# Altium footprint library imx8mnano.PcbLib: 57 footprints (part 3 of 4)
Each footprint in its own frame and in the unit in brackets; x right, y up, seen from the top. Pads: shape width x height; smd on the part's side, far side on the other; paste and mask are expansions set on the pad; w line width, h text height; cw(c..) or ccw(c..) is an arc to the next point about the centre after c.
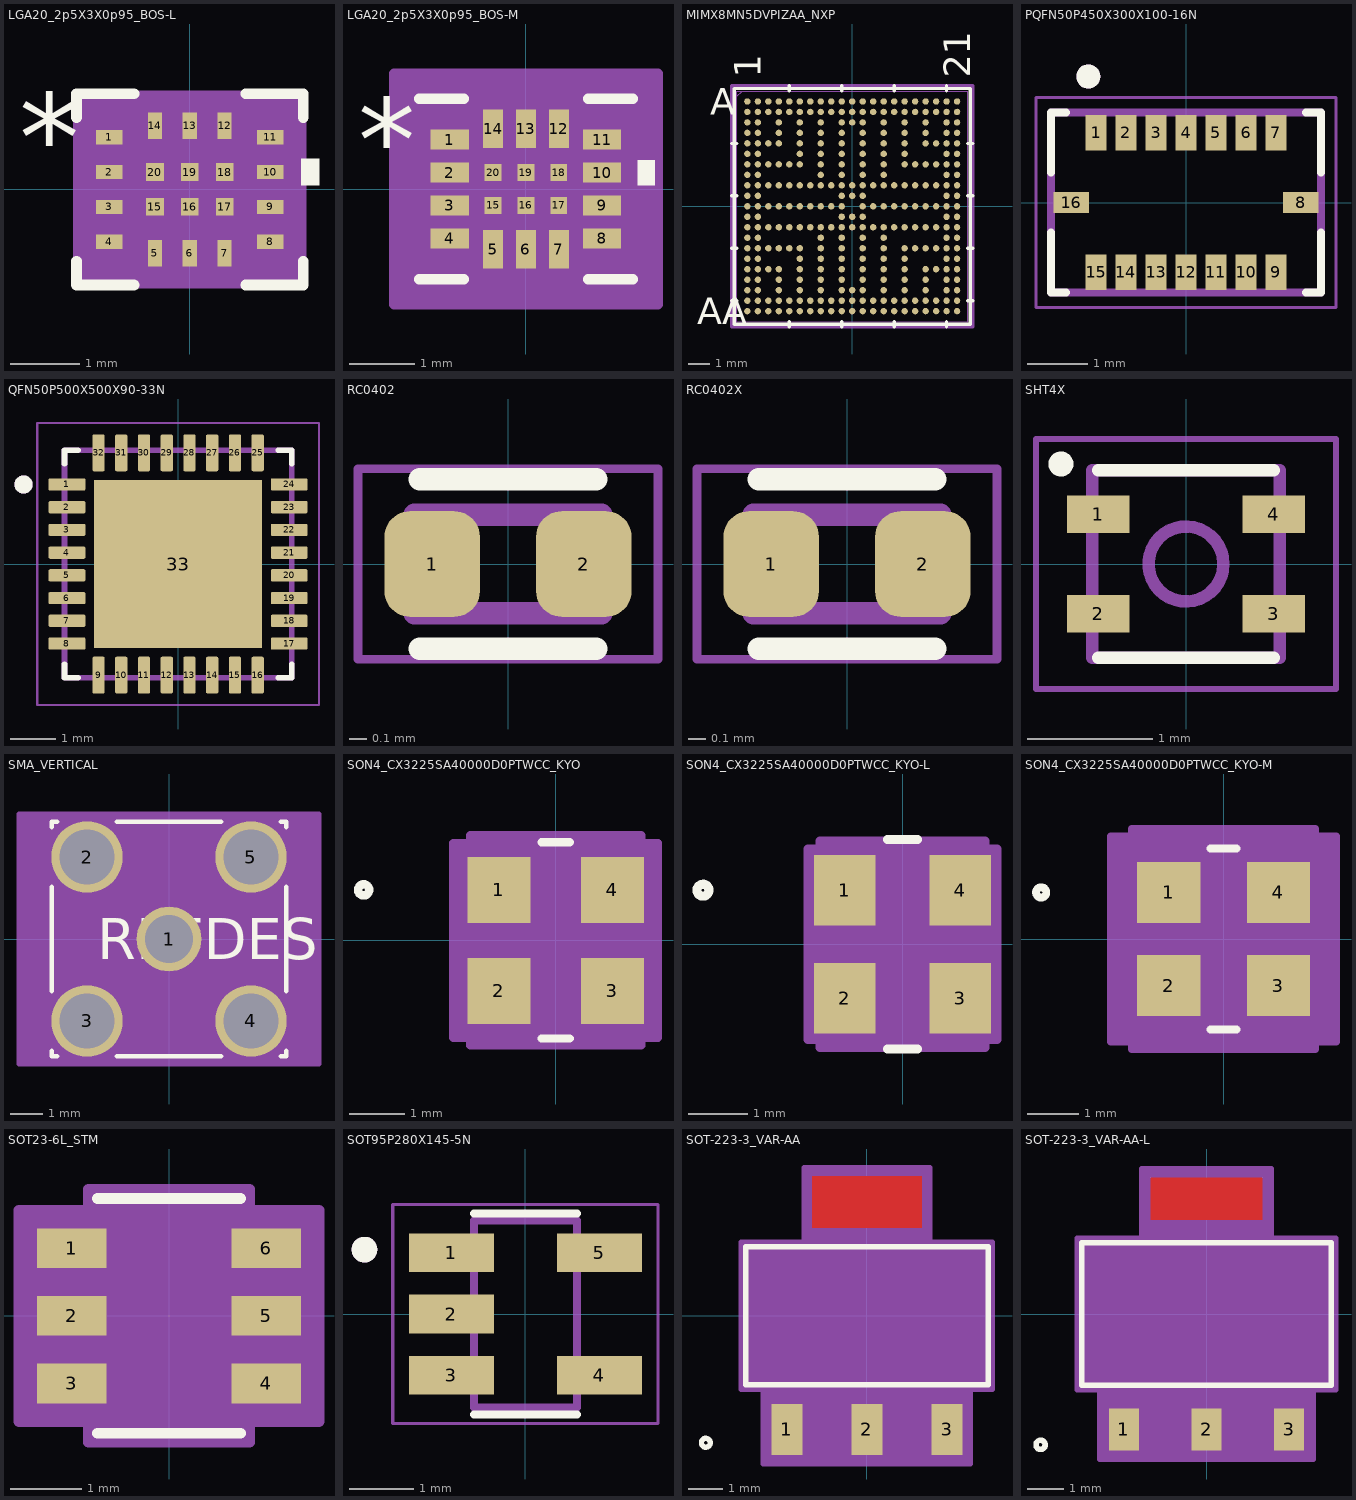
[diagram p2: the footprints below, top view; thin cyan lines are the x and y axes]

## LGA20_2p5X3X0p95_BOS-L [mil]
pads (20):
  rect 15x8 smd paste+0 mask+0: 1(-45.5,29.53) 2(-45.5,9.84) 3(-45.5,-9.84) 4(-45.5,-29.53) 8(45.5,-29.53) 9(45.5,-9.84) 10(45.5,9.84) 11(45.5,29.53)
  rect 8x15 smd paste+0 mask+0: 5(-19.68,-36) 6(0,-36) 7(19.68,-36) 12(19.68,36) 13(0,36) 14(-19.68,36)
  rect 10x10 smd paste+0 mask+0: 15(-19.68,-9.84) 16(0,-9.84) 17(19.69,-9.84) 18(19.68,9.84) 19(0,9.84) 20(-19.68,9.84)
Top Overlay:
  region: 63,17.34 73,17.34 73,2.34 63,2.34
  lines w6: -64,-40.64 -64,-54 -31.52,-54 ; -64,40.64 -64,54 -31.52,54 ; 31.52,-54 64,-54 64,-40.64 ; 31.52,54 64,54 64,40.64
  text "*" at -96.5,4.53 h50
Mechanical 13:
  lines w1: -59,-1 -9,49 ; -59,-49 -59,49 59,49 59,-49 -59,-49 ; -59,-34.53 -55,-34.53 -55,-24.53 -59,-24.53 -59,-34.53 ; -59,-14.84 -55,-14.84 -55,-4.84 -59,-4.84 -59,-14.84 ; -59,4.84 -55,4.84 -55,14.84 -59,14.84 -59,4.84 ; -59,24.53 -55,24.53 -55,34.53 -59,34.53 -59,24.53 ; -24.68,-49 -24.68,-45.5 -14.69,-45.5 -14.69,-49 -24.68,-49 ; -24.68,45.5 -24.68,49 -14.69,49 -14.69,45.5 -24.68,45.5 ; -5,-49 -5,-45.5 5,-45.5 5,-49 -5,-49 ; -5,45.5 -5,49 5,49 5,45.5 -5,45.5 ; 14.69,-49 14.69,-45.5 24.68,-45.5 24.68,-49 14.69,-49 ; 14.69,45.5 14.69,49 24.68,49 24.68,45.5 14.69,45.5 ; 55,-34.53 55,-24.53 59,-24.53 59,-34.53 55,-34.53 ; 55,-14.84 55,-4.84 59,-4.84 59,-14.84 55,-14.84 ; 55,4.84 55,14.84 59,14.84 59,4.84 55,4.84 ; 55,24.53 55,34.53 59,34.53 59,24.53 55,24.53
  text "*" at -19.5,4.53 h50
Mechanical 15:
  region: -27.68,-53 -63,-53 -63,-37.53 -63,37.53 -63,53 -27.68,53 27.68,53 63,53 63,37.53 63,-37.53 63,-53 27.68,-53
  lines w6: -63,-53 -27.68,-53 27.68,-53 63,-53 63,-37.53 63,37.53 63,53 27.68,53 -27.68,53 -63,53 -63,37.53 -63,-37.53 -63,-53
3D body "LGA20_2p5X3X0p95_BOS.step": height 39.09, standoff 0, extent -59.02,-49.02 59.02,49.02

## LGA20_2p5X3X0p95_BOS-M [mil]
pads (20):
  rect 23x12 smd paste+0 mask+0: 1(-45.5,29.53) 2(-45.5,9.84) 3(-45.5,-9.84) 4(-45.5,-29.53) 8(45.5,-29.53) 9(45.5,-9.84) 10(45.5,9.84) 11(45.5,29.53)
  rect 12x23 smd paste+0 mask+0: 5(-19.68,-36) 6(0,-36) 7(19.68,-36) 12(19.68,36) 13(0,36) 14(-19.68,36)
  rect 10x10 smd paste+0 mask+0: 15(-19.68,-9.84) 16(0,-9.84) 17(19.69,-9.84) 18(19.68,9.84) 19(0,9.84) 20(-19.68,9.84)
Top Overlay:
  region: 67,17.34 77,17.34 77,2.34 67,2.34
  lines w6: -64,-54 -37.06,-54 ; -64,54 -37.06,54 ; 37.06,-54 64,-54 ; 37.06,54 64,54
  text "*" at -100.5,4.53 h50
Mechanical 13:
  lines w1: -59,-1 -9,49 ; -59,-49 59,-49 59,49 -59,49 -59,-49 ; -59,-34.53 -59,-24.53 -55,-24.53 -55,-34.53 -59,-34.53 ; -59,-14.84 -59,-4.84 -55,-4.84 -55,-14.84 -59,-14.84 ; -59,4.84 -59,14.84 -55,14.84 -55,4.84 -59,4.84 ; -59,24.53 -59,34.53 -55,34.53 -55,24.53 -59,24.53 ; -24.68,-49 -14.69,-49 -14.69,-45.5 -24.68,-45.5 -24.68,-49 ; -24.68,45.5 -14.69,45.5 -14.69,49 -24.68,49 -24.68,45.5 ; -5,-49 5,-49 5,-45.5 -5,-45.5 -5,-49 ; -5,45.5 5,45.5 5,49 -5,49 -5,45.5 ; 14.69,-49 24.68,-49 24.68,-45.5 14.69,-45.5 14.69,-49 ; 14.69,45.5 24.68,45.5 24.68,49 14.69,49 14.69,45.5 ; 55,-34.53 59,-34.53 59,-24.53 55,-24.53 55,-34.53 ; 55,-14.84 59,-14.84 59,-4.84 55,-4.84 55,-14.84 ; 55,4.84 59,4.84 59,14.84 55,14.84 55,4.84 ; 55,24.53 59,24.53 59,34.53 55,34.53 55,24.53
  text "*" at -15.5,4.53 h50
Mechanical 15:
  region: -45.69,-69 -79,-69 -79,-55.53 -79,55.53 -79,69 -45.69,69 45.69,69 79,69 79,55.53 79,-55.53 79,-69 45.69,-69
  lines w6: -79,-69 -79,-55.53 -79,55.53 -79,69 -45.69,69 45.69,69 79,69 79,55.53 79,-55.53 79,-69 45.69,-69 -45.69,-69 -79,-69
3D body "LGA20_2p5X3X0p95_BOS.step": height 39.09, standoff 0, extent -59.02,-49.02 59.02,49.02

## MIMX8MN5DVPIZAA_NXP [mil]
pads (306):
  round 12 smd paste+0 mask+0: A1(-196.9,196.9) A2(-177.21,196.9) A3(-157.52,196.9) A4(-137.83,196.9) A5(-118.14,196.9) A6(-98.45,196.9) A7(-78.76,196.9) A8(-59.07,196.9) A9(-39.38,196.9) A10(-19.69,196.9) A11(0,196.9) A12(19.69,196.9) A13(39.38,196.9) A14(59.07,196.9) A15(78.76,196.9) A16(98.45,196.9) A17(118.14,196.9) A18(137.83,196.9) A19(157.52,196.9) A20(177.21,196.9) A21(196.9,196.9) AA1(-196.9,-196.9) AA2(-177.21,-196.9) AA3(-157.52,-196.9) AA4(-137.83,-196.9) AA5(-118.14,-196.9) AA6(-98.45,-196.9) AA7(-78.76,-196.9) AA8(-59.07,-196.9) AA9(-39.38,-196.9) AA10(-19.69,-196.9) AA11(0,-196.9) AA12(19.69,-196.9) AA13(39.38,-196.9) AA14(59.07,-196.9) AA15(78.76,-196.9) AA16(98.45,-196.9) AA17(118.14,-196.9) AA18(137.83,-196.9) AA19(157.52,-196.9) AA20(177.21,-196.9) AA21(196.9,-196.9) B1(-196.9,177.21) B2(-177.21,177.21) B3(-157.52,177.21) B4(-137.83,177.21) B5(-118.14,177.21) B6(-98.45,177.21) B7(-78.76,177.21) B8(-59.07,177.21) B9(-39.38,177.21) B10(-19.69,177.21) B11(0,177.21) B12(19.69,177.21) B13(39.38,177.21) B14(59.07,177.21) B15(78.76,177.21) B16(98.45,177.21) B17(118.14,177.21) B18(137.83,177.21) B19(157.52,177.21) B20(177.21,177.21) B21(196.9,177.21) C1(-196.9,157.52) C2(-177.21,157.52) C4(-137.83,157.52) C6(-98.45,157.52) C8(-59.07,157.52) C10(-19.69,157.52) C11(0,157.52) C12(19.69,157.52) C14(59.07,157.52) C16(98.45,157.52) C18(137.83,157.52) C20(177.21,157.52) C21(196.9,157.52) D1(-196.9,137.83) D2(-177.21,137.83) D4(-137.83,137.83) D6(-98.45,137.83) D8(-59.07,137.83) D10(-19.69,137.83) D12(19.69,137.83) D14(59.07,137.83) D16(98.45,137.83) D18(137.83,137.83) D20(177.21,137.83) D21(196.9,137.83) E1(-196.9,118.14) E2(-177.21,118.14) E3(-157.52,118.14) E4(-137.83,118.14) E6(-98.45,118.14) E8(-59.07,118.14) E10(-19.69,118.14) E12(19.69,118.14) E14(59.07,118.14) E16(98.45,118.14) E18(137.83,118.14) E19(157.52,118.14) E20(177.21,118.14) E21(196.9,118.14) F1(-196.9,98.45) F2(-177.21,98.45) F6(-98.45,98.45) F8(-59.07,98.45) F10(-19.69,98.45) F12(19.69,98.45) F14(59.07,98.45) F16(98.45,98.45) F20(177.21,98.45) F21(196.9,98.45) G1(-196.9,78.76) G2(-177.21,78.76) G3(-157.52,78.76) G4(-137.83,78.76) G5(-118.14,78.76) G6(-98.45,78.76) G8(-59.07,78.76) G10(-19.69,78.76) G12(19.69,78.76) G14(59.07,78.76) G16(98.45,78.76) G17(118.14,78.76) G18(137.83,78.76) G19(157.52,78.76) G20(177.21,78.76) G21(196.9,78.76) H1(-196.9,59.07) H2(-177.21,59.07) H8(-59.07,59.07) H10(-19.69,59.07) H12(19.69,59.07) H14(59.07,59.07) H20(177.21,59.07) H21(196.9,59.07) J1(-196.9,39.38) J2(-177.21,39.38) J3(-157.52,39.38) J4(-137.83,39.38) J5(-118.14,39.38) J6(-98.45,39.38) J7(-78.76,39.38) J8(-59.07,39.38) J9(-39.38,39.38) J10(-19.69,39.38) J11(0,39.38) J12(19.69,39.38) J13(39.38,39.38) J14(59.07,39.38) J15(78.76,39.38) J16(98.45,39.38) J17(118.14,39.38) J18(137.83,39.38) J19(157.52,39.38) J20(177.21,39.38) J21(196.9,39.38) K1(-196.9,19.69) K2(-177.21,19.69) K10(-19.69,19.69) K11(0,19.69) K12(19.69,19.69) K20(177.21,19.69) K21(196.9,19.69) L1(-196.9,0) L2(-177.21,0) L3(-157.52,0) L4(-137.83,0) L5(-118.14,0) L6(-98.45,0) L7(-78.76,0) L8(-59.07,0) L9(-39.38,0) L10(-19.69,0) L12(19.69,0) L13(39.38,0) L14(59.07,0) L15(78.76,0) L16(98.45,0) L17(118.14,0) L18(137.83,0) L19(157.52,0) L20(177.21,0) L21(196.9,0) M1(-196.9,-19.69) M2(-177.21,-19.69) M10(-19.69,-19.69) M11(0,-19.69) M12(19.69,-19.69) M20(177.21,-19.69) M21(196.9,-19.69) N1(-196.9,-39.38) N2(-177.21,-39.38) N3(-157.52,-39.38) N4(-137.83,-39.38) N5(-118.14,-39.38) N6(-98.45,-39.38) N7(-78.76,-39.38) N8(-59.07,-39.38) N9(-39.38,-39.38) N10(-19.69,-39.38) N11(0,-39.38) N12(19.69,-39.38) N13(39.38,-39.38) N14(59.07,-39.38) N15(78.76,-39.38) N16(98.45,-39.38) N17(118.14,-39.38) N18(137.83,-39.38) N19(157.52,-39.38) N20(177.21,-39.38) N21(196.9,-39.38) P1(-196.9,-59.07) P2(-177.21,-59.07) P8(-59.07,-59.07) P10(-19.69,-59.07) P12(19.69,-59.07) P14(59.07,-59.07) P20(177.21,-59.07) P21(196.9,-59.07) R1(-196.9,-78.76) R2(-177.21,-78.76) R3(-157.52,-78.76) R4(-137.83,-78.76) R5(-118.14,-78.76) R6(-98.45,-78.76) R8(-59.07,-78.76) R10(-19.69,-78.76) R12(19.69,-78.76) R14(59.07,-78.76) R16(98.45,-78.76) R17(118.14,-78.76) R18(137.83,-78.76) R19(157.52,-78.76) R20(177.21,-78.76) R21(196.9,-78.76) T1(-196.9,-98.45) T2(-177.21,-98.45) T6(-98.45,-98.45) T8(-59.07,-98.45) T10(-19.69,-98.45) T12(19.69,-98.45) T14(59.07,-98.45) T16(98.45,-98.45) T20(177.21,-98.45) T21(196.9,-98.45) U1(-196.9,-118.14) U2(-177.21,-118.14) U3(-157.52,-118.14) U4(-137.83,-118.14) U6(-98.45,-118.14) U8(-59.07,-118.14) U10(-19.69,-118.14) U12(19.69,-118.14) U14(59.07,-118.14) U16(98.45,-118.14) U18(137.83,-118.14) U19(157.52,-118.14) U20(177.21,-118.14) U21(196.9,-118.14) V1(-196.9,-137.83) V2(-177.21,-137.83) V4(-137.83,-137.83) V6(-98.45,-137.83) V8(-59.07,-137.83) V10(-19.69,-137.83) V12(19.69,-137.83) V14(59.07,-137.83) V16(98.45,-137.83) V18(137.83,-137.83) V20(177.21,-137.83) V21(196.9,-137.83) W1(-196.9,-157.52) W2(-177.21,-157.52) W4(-137.83,-157.52) W6(-98.45,-157.52) W8(-59.07,-157.52) W10(-19.69,-157.52) W11(0,-157.52) W12(19.69,-157.52) W14(59.07,-157.52) W16(98.45,-157.52) W18(137.83,-157.52) W20(177.21,-157.52) W21(196.9,-157.52) Y1(-196.9,-177.21) Y2(-177.21,-177.21) Y3(-157.52,-177.21) Y4(-137.83,-177.21) Y5(-118.14,-177.21) Y6(-98.45,-177.21) Y7(-78.76,-177.21) Y8(-59.07,-177.21) Y9(-39.38,-177.21) Y10(-19.69,-177.21) Y11(0,-177.21) Y12(19.69,-177.21) Y13(39.38,-177.21) Y14(59.07,-177.21) Y15(78.76,-177.21) Y16(98.45,-177.21) Y17(118.14,-177.21) Y18(137.83,-177.21) Y19(157.52,-177.21) Y20(177.21,-177.21) Y21(196.9,-177.21)
Top Overlay:
  lines w6: -226.5,-177.21 -216.5,-177.21 ; -226.5,-78.76 -216.5,-78.76 ; -226.5,19.69 -216.5,19.69 ; -226.5,118.14 -216.5,118.14 ; -118.14,-226.5 -118.14,-216.5 ; -118.14,216.5 -118.14,226.5 ; -19.69,-226.5 -19.69,-216.5 ; -19.69,216.5 -19.69,226.5 ; 78.76,-226.5 78.76,-216.5 ; 78.76,216.5 78.76,226.5 ; 177.21,-226.5 177.21,-216.5 ; 177.21,216.5 177.21,226.5 ; 216.5,-177.21 226.5,-177.21 ; 216.5,-78.76 226.5,-78.76 ; 216.5,19.69 226.5,19.69 ; 216.5,118.14 226.5,118.14 ; -221.5,-221.5 -221.5,221.5 221.5,221.5 221.5,-221.5 -221.5,-221.5
  text "21" at 221.9,241.5 h50
  text "1" at -171.9,241.5 h50
  text "AA" at -291.5,-221.9 h50
  text "A" at -266.5,171.9 h50
Bottom Overlay:
  text "21" at 171.9,241.5 h50
  text "1" at -221.9,241.5 h50
  text "AA" at -241.5,-221.9 h50
  text "A" at -241.5,171.9 h50
Mechanical 13:
  lines w1: -216.5,206.66 -206.66,216.5 ; -216.5,-216.5 -216.5,216.5 216.5,216.5 216.5,-216.5 -216.5,-216.5
  text "21" at 221.9,241.5 h50
  text "1" at -171.9,241.5 h50
  text "AA" at -291.5,-221.9 h50
  text "A" at -266.5,171.9 h50
Mechanical 15:
  lines w6: -226.5,-226.5 226.5,-226.5 226.5,226.5 -226.5,226.5 -226.5,-226.5

## PQFN50P450X300X100-16N [mm]
pads (16):
  rect 0.35x0.59 smd: 1(-1.5,1.165) 2(-1,1.165) 3(-0.5,1.165) 4(0,1.165) 5(0.5,1.165) 6(1,1.165) 7(1.5,1.165) 9(1.5,-1.165) 10(1,-1.165) 11(0.5,-1.165) 12(0,-1.165) 13(-0.5,-1.165) 14(-1,-1.165) 15(-1.5,-1.165)
  rect 0.59x0.35 smd: 8(1.915,0) 16(-1.915,0)
Top Overlay:
  circle w0.2: c-1.629,2.1 r0.1
  lines w0.127: -2.25,-0.5 -2.25,-1.5 -2,-1.5 ; -2.25,0.5 -2.25,1.5 -2,1.5 ; 2,-1.5 2.25,-1.5 2.25,-0.5 ; 2,1.5 2.25,1.5 2.25,0.5
Mechanical 13:
  circle w0.2: c-1.629,2.1 r0.1
  lines w0.127: -2.25,-1.5 -2.25,1.5 2.25,1.5 2.25,-1.5 -2.25,-1.5
Mechanical 15:
  lines w0.05: -2.5,-1.75 -2.5,1.75 2.5,1.75 2.5,-1.75 -2.5,-1.75
3D body "BMI088--3DModel-STEP-56544.STEP": height 1, standoff 0, extent -2.25,-1.5 2.25,1.5

## QFN50P500X500X90-33N [mm]
height 0.9
pads (33):
  rrect25% 0.81x0.27 smd mask+0: 1(-2.445,1.75) 2(-2.445,1.25) 3(-2.445,0.75) 4(-2.445,0.25) 5(-2.445,-0.25) 6(-2.445,-0.75) 7(-2.445,-1.25) 8(-2.445,-1.75) 17(2.445,-1.75) 18(2.445,-1.25) 19(2.445,-0.75) 20(2.445,-0.25) 21(2.445,0.25) 22(2.445,0.75) 23(2.445,1.25) 24(2.445,1.75)
  rrect25% 0.27x0.81 smd mask+0: 9(-1.75,-2.445) 10(-1.25,-2.445) 11(-0.75,-2.445) 12(-0.25,-2.445) 13(0.25,-2.445) 14(0.75,-2.445) 15(1.25,-2.445) 16(1.75,-2.445) 25(1.75,2.445) 26(1.25,2.445) 27(0.75,2.445) 28(0.25,2.445) 29(-0.25,2.445) 30(-0.75,2.445) 31(-1.25,2.445) 32(-1.75,2.445)
  rect 3.7x3.7 smd paste-0.68 mask+0.05: 33(0,0)
Top Overlay:
  circle w0.2: c-3.4,1.75 r0.1
  lines w0.127: -2.5,-2.205 -2.5,-2.5 -2.205,-2.5 ; -2.5,2.205 -2.5,2.5 -2.205,2.5 ; 2.205,-2.5 2.5,-2.5 2.5,-2.205 ; 2.205,2.5 2.5,2.5 2.5,2.205
Top Solder:
  drawing of 32 lines, arcs and shapes, not listed
Mechanical 13:
  circle w0.2: c-3.4,1.75 r0.1
  lines w0.127: -2.5,-2.5 2.5,-2.5 2.5,2.5 -2.5,2.5 -2.5,-2.5
Mechanical 15:
  lines w0.05: -3.1,-3.1 3.1,-3.1 3.1,3.1 -3.1,3.1 -3.1,-3.1
3D body "step_temp.STEP": height 0.9, standoff 0, extent -2.5,-2.5 2.5,2.5

## RC0402 [mm]
pads (2):
  rrect53% 0.54x0.6 smd: 1(-0.43,0) 2(0.43,0)
Top Overlay:
  lines w0.127: -0.5,-0.48 0.5,-0.48 ; -0.5,0.48 0.5,0.48
Mechanical 13:
  lines w0.127: -0.53,-0.28 0.53,-0.28 0.53,0.28 -0.53,0.28 -0.53,-0.28
Mechanical 15:
  lines w0.05: -0.85,-0.54 0.85,-0.54 0.85,0.54 -0.85,0.54 -0.85,-0.54
3D body "YAG_CC0402_YAG.step": height 0.56, standoff 0, extent -0.521,-0.279 0.521,0.279

## RC0402X [mm]
pads (2):
  rrect53% 0.54x0.6 smd: 1(-0.43,0) 2(0.43,0)
Top Overlay:
  lines w0.127: -0.5,-0.48 0.5,-0.48 ; -0.5,0.48 0.5,0.48
Mechanical 13:
  lines w0.127: -0.53,-0.28 0.53,-0.28 0.53,0.28 -0.53,0.28 -0.53,-0.28
Mechanical 15:
  lines w0.05: -0.85,-0.54 0.85,-0.54 0.85,0.54 -0.85,0.54 -0.85,-0.54
3D body "RC0402FR-072KP.step": height 0.4, standoff 0, extent -0.5,-0.25 0.5,0.25

## SHT4X [mm]
pads (4):
  rect 0.5x0.3 smd: 1(-0.7,0.4) 2(-0.7,-0.4) 3(0.7,-0.4) 4(0.7,0.4)
Top Overlay:
  circle w0.1: c-1,0.8 r0.05
  lines w0.1: -0.7,-0.75 0.7,-0.75 ; -0.7,0.75 0.7,0.75
Mechanical 13:
  circle w0.1: c0,0 r0.3
  lines w0.1: -0.75,-0.75 0.75,-0.75 0.75,0.75 -0.75,0.75 -0.75,-0.75
Mechanical 15:
  lines w0.05: -1.2,-1 1.2,-1 1.2,1 -1.2,1 -1.2,-1
3D body "step_temp.STEP": height 0.69, standoff 0, extent -0.751,-0.751 0.751,0.751

## SMA_VERTICAL [mil]
pads (5):
  round 79 / inner round 60 / far side round 79 hole 59 paste-39.5 mask+0: 1(0,0)
  round 87 / inner round 60 / far side round 87 hole 67 paste-43.5 mask+0: 2(-100,100) 3(-100,-100) 4(100,-100) 5(100,100)
Top Overlay:
  lines w6: -143,-136.8 -143,-143 -136.8,-143 ; -143,-63.2 -143,63.2 ; -143,136.8 -143,143 -136.8,143 ; -63.2,-143 63.2,-143 ; -63.2,143 63.2,143 ; 136.8,-143 143,-143 143,-136.8 ; 136.8,143 143,143 143,136.8 ; 143,-63.2 143,63.2
  text "REFDES" at -87.5,-25 h50
Mechanical 13:
  lines w1: -138,-138 138,-138 138,138 -138,138 -138,-138
  text "RefDes2" at -87.5,-25 h50
Mechanical 15:
  region: 183,-152.62 -183,-152.62 -183,152.62 183,152.62
  lines w6: -183,-152.62 -183,152.62 183,152.62 183,-152.62 -183,-152.62
3D body "SMA_STEP.stp": height 500, standoff -30.32, extent -137.8,-137.8 137.8,137.8

## SON4_CX3225SA40000D0PTWCC_KYO [mil]
pads (4):
  rect 45x47 smd paste+0 mask+0: 1(-40.5,36.02) 2(-40.5,-36.02) 3(40.5,-36.02) 4(40.5,36.02)
Top Overlay:
  circle w6: c-137.05,36.02 r4
  lines w6: -10.14,-70 10.14,-70 ; -10.14,70 10.14,70
Mechanical 13:
  circle w0: c-18,36.02 r3
  lines w0: -12,65 ccw(c0,65) 12,65
  lines w1: -51,-65 51,-65 51,65 -51,65 -51,-65
Mechanical 15:
  region: -61,-69.52 -73,-69.52 -73,69.52 -61,69.52 -61,75 61,75 61,69.52 73,69.52 73,-69.52 61,-69.52 61,-75 -61,-75
  lines w6: -73,-69.52 -73,69.52 -61,69.52 -61,75 61,75 61,69.52 73,69.52 73,-69.52 61,-69.52 61,-75 -61,-75 -61,-69.52 -73,-69.52
3D body "SON4_CX3225SA40000D0PTWCC_KYO.step": height 32.09, standoff 0, extent -50.98,-65 50.98,65

## SON4_CX3225SA40000D0PTWCC_KYO-L [mil]
pads (4):
  rect 41x47 smd paste+0 mask+0: 1(-38.5,36.02) 2(-38.5,-36.02) 3(38.5,-36.02) 4(38.5,36.02)
Top Overlay:
  circle w6: c-133.05,36.02 r4
  lines w6: -10.14,-70 10.14,-70 ; -10.14,70 10.14,70
Mechanical 13:
  circle w0: c-18,36.02 r3
  lines w0: -12,65 ccw(c0,65) 12,65
  lines w1: -51,-65 51,-65 51,65 -51,65 -51,-65
Mechanical 15:
  region: -55,-63.52 -63,-63.52 -63,63.52 -55,63.52 -55,69 55,69 55,63.52 63,63.52 63,-63.52 55,-63.52 55,-69 -55,-69
  lines w6: -63,-63.52 -63,63.52 -55,63.52 -55,69 55,69 55,63.52 63,63.52 63,-63.52 55,-63.52 55,-69 -55,-69 -55,-63.52 -63,-63.52
3D body "SON4_CX3225SA40000D0PTWCC_KYO.step": height 32.09, standoff 0, extent -50.98,-65 50.98,65

## SON4_CX3225SA40000D0PTWCC_KYO-M [mil]
pads (4):
  rect 49x47 smd paste+0 mask+0: 1(-42.5,36.02) 2(-42.5,-36.02) 3(42.5,-36.02) 4(42.5,36.02)
Top Overlay:
  circle w6: c-141.05,36.02 r4
  lines w6: -10.14,-70 10.14,-70 ; -10.14,70 10.14,70
Mechanical 13:
  circle w0: c-18,36.02 r3
  lines w0: -12,65 ccw(c0,65) 12,65
  lines w1: -51,-65 51,-65 51,65 -51,65 -51,-65
Mechanical 15:
  region: -71,-79.52 -87,-79.52 -87,79.52 -71,79.52 -71,85 71,85 71,79.52 87,79.52 87,-79.52 71,-79.52 71,-85 -71,-85
  lines w6: -87,-79.52 -87,79.52 -71,79.52 -71,85 71,85 71,79.52 87,79.52 87,-79.52 71,-79.52 71,-85 -71,-85 -71,-79.52 -87,-79.52
3D body "SON4_CX3225SA40000D0PTWCC_KYO.step": height 32.09, standoff 0, extent -50.98,-65 50.98,65

## SOT23-6L_STM [mil]
pads (6):
  rect 38.5x22 smd paste+0 mask+0: 1(-53.75,37.4) 2(-53.75,0) 3(-53.75,-37.4) 4(53.75,-37.4) 5(53.75,0) 6(53.75,37.4)
Top Overlay:
  lines w6: -39.5,-65 39.5,-65 ; -39.5,65 39.5,65
  text "." at -65,65 h50
Mechanical 13:
  lines w0: -12,60 ccw(c0,60) 12,60
  lines w1: -59,-47.4 -34.5,-47.4 -34.5,-27.4 -59,-27.4 -59,-47.4 ; -59,-10 -34.5,-10 -34.5,10 -59,10 -59,-10 ; -59,27.4 -34.5,27.4 -34.5,47.4 -59,47.4 -59,27.4 ; -34.5,-60 -34.5,60 34.5,60 34.5,-60 -34.5,-60 ; 34.5,-47.4 59,-47.4 59,-27.4 34.5,-27.4 34.5,-47.4 ; 34.5,-10 59,-10 59,10 34.5,10 34.5,-10 ; 34.5,27.4 59,27.4 59,47.4 34.5,47.4 34.5,27.4
  text "*" at -32,7 h50
Mechanical 15:
  region: -44.5,-58.4 -83,-58.4 -83,58.4 -44.5,58.4 -44.5,70 44.5,70 44.5,58.4 83,58.4 83,-58.4 44.5,-58.4 44.5,-70 -44.5,-70
  lines w6: -83,-58.4 -44.5,-58.4 -44.5,-70 44.5,-70 44.5,-58.4 83,-58.4 83,58.4 44.5,58.4 44.5,70 -44.5,70 -44.5,58.4 -83,58.4 -83,-58.4
3D body "SOT23-6L_STM.step": height 57.09, standoff 0, extent -59.02,-60 59.02,60

## SOT95P280X145-5N [mm]
pads (5):
  rect 1.32x0.6 smd: 1(-1.15,0.95) 2(-1.15,0) 3(-1.15,-0.95) 4(1.15,-0.95) 5(1.15,0.95)
Top Overlay:
  circle w0.2: c-2.5,1 r0.1
  lines w0.127: -0.8,-1.563 0.8,-1.563 ; -0.8,1.563 0.8,1.563
Mechanical 13:
  circle w0.2: c-2.5,1 r0.1
  lines w0.127: -0.8,-1.45 -0.8,1.45 0.8,1.45 0.8,-1.45 -0.8,-1.45
Mechanical 15:
  lines w0.05: -2.06,-1.7 2.06,-1.7 2.06,1.7 -2.06,1.7 -2.06,-1.7
3D body "step_temp.STEP": height 1.45, standoff 0, extent -1.4,-1.45 1.4,1.45

## SOT-223-3_VAR-AA [mil]
pads (3):
  rect 35x58 smd paste+0 mask+0: 1(-90.55,-128.5) 2(0,-128.5) 3(90.55,-128.5)
Top Layer:
  region: 62,99.5 62,157.5 -62,157.5 -62,99.5
Top Overlay:
  circle w6: c-182,-143.5 r5
  lines w6: -137,-78 -137,78 137,78 137,-78 -137,-78
Top Paste:
  region: 62,99.5 62,157.5 -62,157.5 -62,99.5
Top Solder:
  region: 63,85.5 63,171.5 -63,171.5 -63,85.5
Mechanical 13:
  circle w0: c-122,-63 r5
  lines w1: -132,-73 -132,73 132,73 132,-73 -132,-73 ; -107.05,-143.5 -74.05,-143.5 -74.05,-73 -107.05,-73 -107.05,-143.5 ; -61,73 -61,143.5 61,143.5 61,73 -61,73 ; -16.5,-143.5 16.5,-143.5 16.5,-73 -16.5,-73 -16.5,-143.5 ; 74.05,-143.5 107.05,-143.5 107.05,-73 74.05,-73 74.05,-143.5
Mechanical 15:
  region: -142,-83 -142,83 -71,83 -71,167.5 71,167.5 71,83 142,83 142,-83 117.05,-83 117.05,-167.5 -117.05,-167.5 -117.05,-83
  lines w6: -142,-83 -117.05,-83 -117.05,-167.5 117.05,-167.5 117.05,-83 142,-83 142,83 71,83 71,167.5 -71,167.5 -71,83 -142,83 -142,-83
3D body "SOT-223-3_VAR-AA.step": height 71.1, standoff 0, extent -132.01,-143.5 132.01,143.5

## SOT-223-3_VAR-AA-L [mil]
pads (3):
  rect 33x46 smd paste+0 mask+0: 1(-90.55,-126.5) 2(0,-126.5) 3(90.55,-126.5)
Top Layer:
  region: 61,103.5 61,149.5 -61,149.5 -61,103.5
Top Overlay:
  circle w6: c-182,-143.5 r5
  lines w6: -137,-78 137,-78 137,78 -137,78 -137,-78
Top Paste:
  region: 61,103.5 61,149.5 -61,149.5 -61,103.5
Top Solder:
  region: 61,93.5 61,155.5 -61,155.5 -61,93.5
Mechanical 13:
  circle w0: c-122,-63 r5
  lines w1: -132,-73 132,-73 132,73 -132,73 -132,-73 ; -107.05,-143.5 -107.05,-73 -74.05,-73 -74.05,-143.5 -107.05,-143.5 ; -61,73 61,73 61,143.5 -61,143.5 -61,73 ; -16.5,-143.5 -16.5,-73 16.5,-73 16.5,-143.5 -16.5,-143.5 ; 74.05,-143.5 74.05,-73 107.05,-73 107.05,-143.5 74.05,-143.5
Mechanical 15:
  region: -142,-83 -142,83 -71,83 -71,159.5 71,159.5 71,83 142,83 142,-83 117.05,-83 117.05,-159.5 -117.05,-159.5 -117.05,-83
  lines w6: -142,-83 -142,83 -71,83 -71,159.5 71,159.5 71,83 142,83 142,-83 117.05,-83 117.05,-159.5 -117.05,-159.5 -117.05,-83 -142,-83
3D body "SOT-223-3_VAR-AA.step": height 71.1, standoff 0, extent -132.01,-143.5 132.01,143.5